# Altium schematic symbol library 68001-104HLF.SchLib: 1 symbol
Pins are listed as number, name and electrical type; pins without a type are passive.

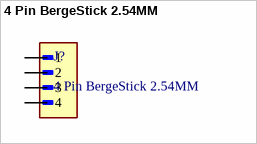
[diagram p0: symbol 4 Pin BergeStick 2.54MM]

## 4 Pin BergeStick 2.54MM
designator J?
4 Pin 4Pos THT BergeStick 2.54MM Amphenol 68001-104HLF 3A; SnapEDA_Link: https://www.snapeda.com/parts/68001-104HLF/Amphenol/view-part/?ref=snap; Package: None; Value: *; MF: Amphenol; MP: 68001-104HLF; Check_prices: https://www.snapeda.com/parts/68001-104HLF/Amphenol/view-part/?ref=eda
footprint 4 Pin BergeStick 2.54MM (4 Pin 4Pos THT BergeStick 2.54MM Amphenol 68001-104HLF 3A AMPHENOL_68001-104HLF)
pins: 1, 2, 3, 4